# Altium schematic symbol library EEUTP1V102.SchLib: 1 symbol
Pins are listed as number, name and electrical type; pins without a type are passive.

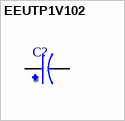
[diagram p0: symbol EEUTP1V102]

## EEUTP1V102
designator C?
1000ÂµF 35V Aluminum Electrolytic Capacitors Radial, Can 5000 Hrs @ 125Â°C; MF: Panasonic; MP: EEUTP1V102; SnapEDA_Link: https://www.snapeda.com/parts/EEUTP1V102/Panasonic/view-part/5792291/?ref=snap; Price: None; Check_prices: https://www.snapeda.com/parts/EEUTP1V102/Panasonic/view-part/5792291/?ref=eda; Package: RADIAL-2 Panasonic; Availability: In Stock; Value: *
footprint CAPPRD750W80D1600H2000
pins: N, P